# Altium footprint library ControllerBoardCMPV2.PcbLib: 1 footprints
Each footprint in its own frame and in the unit in brackets; x right, y up, seen from the top. Pads: shape width x height; smd on the part's side, far side on the other; paste and mask are expansions set on the pad; w line width, h text height; cw(c..) or ccw(c..) is an arc to the next point about the centre after c.
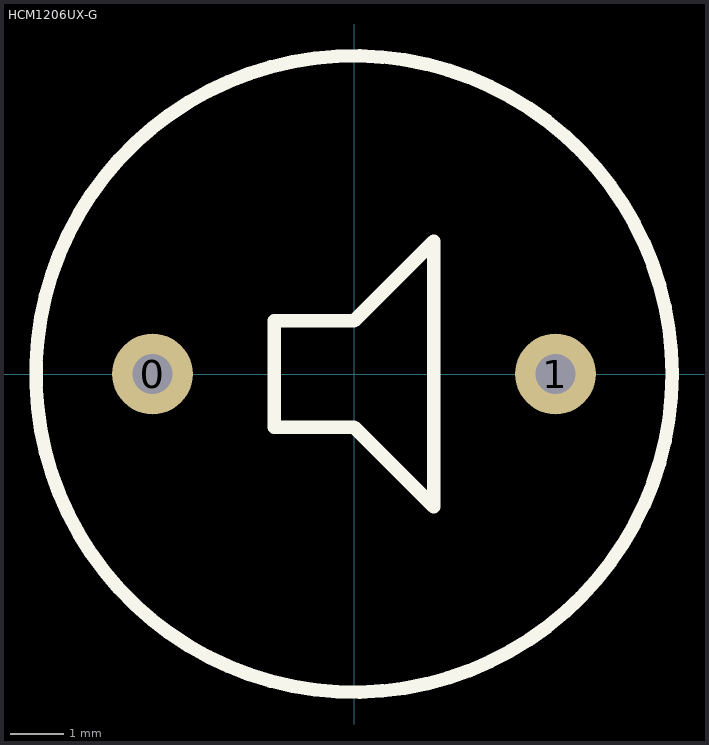
[diagram p0: the footprint, top view; thin cyan lines are the x and y axes]

## HCM1206UX-G [mil]
height 295.28
pads (2):
  round 60 hole 30: 0(-149.61,0) 1(149.61,0)
Top Overlay:
  circle w10: c0,0 r236.25
  lines w10: -59.06,-39.37 -59.06,39.37 0,39.37 59.06,98.43 59.06,-98.43 0,-39.37 -59.06,-39.37